# Altium integrated library WE-UCF_rev15a.intlib: 11 symbols
Pins are listed as number, name and electrical type; pins without a type are passive.

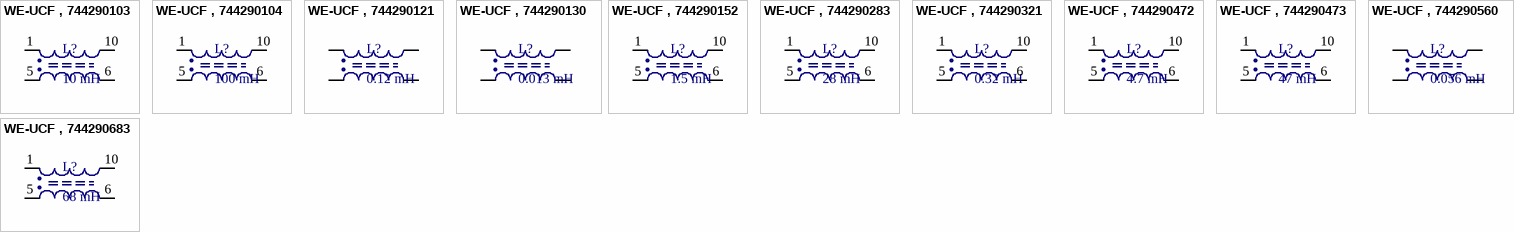
[diagram p0: symbols WE-UCF , 744290103 to WE-UCF , 744290683]

## WE-UCF , 744290103
designator L?, comment 10 mH
WE-UCF SMD Common Mode Line Filter, L=10 mH; partNo: 744290103; Manufacturer: Würth Elektronik eiSos GmbH; Inductance: 10 mH; ComponentLink1Description: Manufacturer; ComponentLink1URL: http://www.we-online.de; Created by: Karrer Zheng; Created Date: June 2014; ComponentLink2Description: Datasheet; ComponentLink2URL: http://katalog.we-online.de/pbs/datasheet/744290103.pdf
footprint WE-UCF_2 turns (SMD Common Mode Line Filter, 8-Leads, Body 14x12.5mm)
pins: 1, 5, 6, 10

## WE-UCF , 744290104
designator L?, comment 100 mH
WE-UCF SMD Common Mode Line Filter, L=100 mH; partNo: 744290104; Manufacturer: Würth Elektronik eiSos GmbH; Inductance: 100 mH; ComponentLink1Description: Manufacturer; ComponentLink1URL: http://www.we-online.de; Created by: Karrer Zheng; Created Date: June 2014; ComponentLink2Description: Datasheet; ComponentLink2URL: http://katalog.we-online.de/pbs/datasheet/744290104.pdf
footprint WE-UCF_2 turns (SMD Common Mode Line Filter, 8-Leads, Body 14x12.5mm)
pins: 1, 5, 6, 10

## WE-UCF , 744290121
designator L?, comment 0.12 mH
WE-UCF SMD Common Mode Line Filter, L=0.12 mH; partNo: 744290121; Manufacturer: Würth Elektronik eiSos GmbH; Inductance: 0.12 mH; ComponentLink1Description: Manufacturer; ComponentLink1URL: http://www.we-online.de; Created by: Karrer Zheng; Created Date: June 2014; ComponentLink2Description: Datasheet; ComponentLink2URL: http://katalog.we-online.de/pbs/datasheet/744290121.pdf
footprint WE-UCF_4 turns (SMD Common Mode Line Filter, 8-Leads, Body 14x12.5mm)
pins: 1 1,2, 5 4,5, 6 6,7, 10 9,10

## WE-UCF , 744290130
designator L?, comment 0.013 mH
WE-UCF SMD Common Mode Line Filter, L=0.013 mH; partNo: 744290130; Manufacturer: Würth Elektronik eiSos GmbH; Inductance: 0.013 mH; ComponentLink1Description: Manufacturer; ComponentLink1URL: http://www.we-online.de; Created by: Karrer Zheng; Created Date: June 2014; ComponentLink2Description: Datasheet; ComponentLink2URL: http://katalog.we-online.de/pbs/datasheet/744290130.pdf
footprint WE-UCF_4 turns (SMD Common Mode Line Filter, 8-Leads, Body 14x12.5mm)
pins: 1 1,2, 5 4,5, 6 6,7, 10 9,10

## WE-UCF , 744290152
designator L?, comment 1.5 mH
WE-UCF SMD Common Mode Line Filter, L=1.5 mH; partNo: 744290152; Manufacturer: Würth Elektronik eiSos GmbH; Inductance: 1.5 mH; ComponentLink1Description: Manufacturer; ComponentLink1URL: http://www.we-online.de; Created by: Karrer Zheng; Created Date: June 2014; ComponentLink2Description: Datasheet; ComponentLink2URL: http://katalog.we-online.de/pbs/datasheet/744290152.pdf
footprint WE-UCF_2 turns (SMD Common Mode Line Filter, 8-Leads, Body 14x12.5mm)
pins: 1, 5, 6, 10

## WE-UCF , 744290283
designator L?, comment 28 mH
WE-UCF SMD Common Mode Line Filter, L=28 mH; partNo: 744290283; Manufacturer: Würth Elektronik eiSos GmbH; Inductance: 28 mH; ComponentLink1Description: Manufacturer; ComponentLink1URL: http://www.we-online.de; Created by: Karrer Zheng; Created Date: June 2014; ComponentLink2Description: Datasheet; ComponentLink2URL: http://katalog.we-online.de/pbs/datasheet/744290283.pdf
footprint WE-UCF_2 turns (SMD Common Mode Line Filter, 8-Leads, Body 14x12.5mm)
pins: 1, 5, 6, 10

## WE-UCF , 744290321
designator L?, comment 0.32 mH
WE-UCF SMD Common Mode Line Filter, L=0.32 mH; partNo: 744290321; Manufacturer: Würth Elektronik eiSos GmbH; Inductance: 0.32 mH; ComponentLink1Description: Manufacturer; ComponentLink1URL: http://www.we-online.de; Created by: Karrer Zheng; Created Date: June 2014; ComponentLink2Description: Datasheet; ComponentLink2URL: http://katalog.we-online.de/pbs/datasheet/744290321.pdf
footprint WE-UCF_2 turns (SMD Common Mode Line Filter, 8-Leads, Body 14x12.5mm)
pins: 1, 5, 6, 10

## WE-UCF , 744290472
designator L?, comment 4.7 mH
WE-UCF SMD Common Mode Line Filter, L=0.4.7 mH; partNo: 744290472; Manufacturer: Würth Elektronik eiSos GmbH; Inductance: 4.7 mH; ComponentLink1Description: Manufacturer; ComponentLink1URL: http://www.we-online.de; Created by: Karrer Zheng; Created Date: June 2014; ComponentLink2Description: Datasheet; ComponentLink2URL: http://katalog.we-online.de/pbs/datasheet/744290472.pdf
footprint WE-UCF_2 turns (SMD Common Mode Line Filter, 8-Leads, Body 14x12.5mm)
pins: 1, 5, 6, 10

## WE-UCF , 744290473
designator L?, comment 47 mH
WE-UCF SMD Common Mode Line Filter, L=47 mH; partNo: 744290473; Manufacturer: Würth Elektronik eiSos GmbH; Inductance: 47 mH; ComponentLink1Description: Manufacturer; ComponentLink1URL: http://www.we-online.de; Created by: Karrer Zheng; Created Date: June 2014; ComponentLink2Description: Datasheet; ComponentLink2URL: http://katalog.we-online.de/pbs/datasheet/744290473.pdf
footprint WE-UCF_2 turns (SMD Common Mode Line Filter, 8-Leads, Body 14x12.5mm)
pins: 1, 5, 6, 10

## WE-UCF , 744290560
designator L?, comment 0.056 mH
WE-UCF SMD Common Mode Line Filter, L=0.056 mH; partNo: 744290560; Manufacturer: Würth Elektronik eiSos GmbH; Inductance: 0.056 mH; ComponentLink1Description: Manufacturer; ComponentLink1URL: http://www.we-online.de; Created by: Karrer Zheng; Created Date: June 2014; ComponentLink2Description: Datasheet; ComponentLink2URL: http://katalog.we-online.de/pbs/datasheet/744290560.pdf
footprint WE-UCF_4 turns (SMD Common Mode Line Filter, 8-Leads, Body 14x12.5mm)
pins: 1 1,2, 5 4,5, 6 6,7, 10 9,10

## WE-UCF , 744290683
designator L?, comment 68 mH
WE-UCF SMD Common Mode Line Filter, L=68 mH; partNo: 744290683; Manufacturer: Würth Elektronik eiSos GmbH; Inductance: 68 mH; ComponentLink1Description: Manufacturer; ComponentLink1URL: http://www.we-online.de; Created by: Karrer Zheng; Created Date: June 2014; ComponentLink2Description: Datasheet; ComponentLink2URL: http://katalog.we-online.de/pbs/datasheet/744290683.pdf
footprint WE-UCF_2 turns (SMD Common Mode Line Filter, 8-Leads, Body 14x12.5mm)
pins: 1, 5, 6, 10